# Altium schematic symbol library Board_C22.SchLib: 33 symbols
Pins are listed as number, name and electrical type; pins without a type are passive.

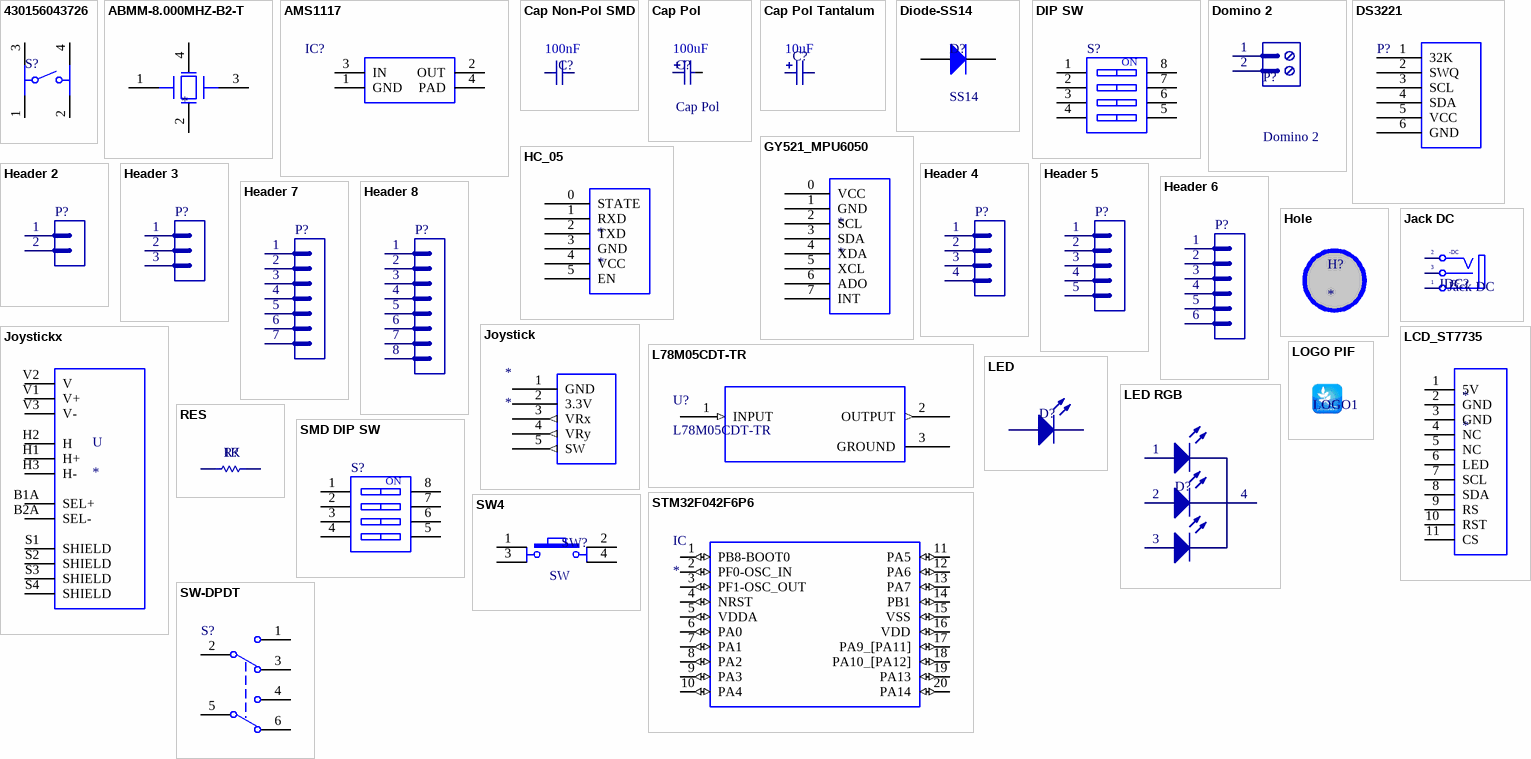
[diagram p0: symbols 430156043726 to SW-DPDT]

## 430156043726
designator S?
WS-TATV THT Tact Switch 6x6mm, height 4.3mm, 260gf; Part Number: 430156043726; Rated Voltage: 12VDC; Rated Current: 50mA; Washable: No; ComponentLink1Description: Manufacturer; ComponentLink1URL: http://www.we-online.de; ComponentLink2Description: Datasheet; ComponentLink2URL: https://katalog.we-online.com/em/datasheet/430156043726.pdf; Operating Temperature: -40 to +85degC; Published Date: September 2019; Contact Material: Stainless Steel; Height: 4.3mm; Mounting Technology: THT; Contact Plating: Silver; Operation Force: 260gf; Packaging: Bulk; Terminal Material: Copper Alloy; Publisher: Wurth Elektronik; Terminal Plating: Silver
footprint 4301x60437x6 (6x6mm Tact Switch, THT version)
pins: 1, 2, 3, 4

## ABMM-8.000MHZ-B2-T
designator ?
8MHz Â±20ppm Crystal 18pF 70 Ohms 4-SMD, No Lead; MP: ABMM-8.000MHZ-B2-T; MF: Abracon; Package: SMD-4 Abracon; Digi-Key_Purchase_URL: https://www.digikey.com/product-detail/en/abracon-llc/ABMM-8.000MHZ-B2-T/535-9164-1-ND/675681?utm_source=snapeda&utm_medium=aggregator&utm_campaign=symbol; Value: *; SnapEDA_Link: https://www.snapeda.com/parts/ABMM-8.000MHZ-B2-T/Abracon%20LLC/view-part/106768/?ref=snap; Digi-Key_Part_Number: 535-9164-1-ND
footprint XTAL_TSX-3225_16.0000MF18X-AC3
pins: 1, 2, 3, 4

## AMS1117
designator IC?
Available in 1.8V, 2.5V, 2.85V, 3.3V, 5V, and  Adjustable Versions; Value: LM317
footprint SOT223 (SOT223, 4-Leads, Body 6.5x3.5mm, Pitch 2.3mm, Lead Span 7mm, IPC Medium Density)
pins: 1 GND, 2 OUT, 3 IN, 4 PAD

## Cap Non-Pol SMD
designator C?  value 100nF  (hidden comment: Cap Non-Pol SMD)
Capacitor
footprint CAP-SM-0805
pins: 1, 2

## Cap Pol
designator C?  value 100uF
Polarized Capacitor (Radial)
footprint CP1/2.5 (Tu hoa 33 >100 uF,50V, 220uF/16V,25V)
pins: 1, 2
1 alternate drawing of the same symbol

## Cap Pol Tantalum
designator C?, comment Capacitance: 10uF  (hidden comment: Capacitors)
Capacitors Tantalum; Manufacturer: Kemet; Manufacturer Part Number: T491A106K010AT; Manufacturer Size Code: A; Tolerance: ±10%; Voltage - Rated: 10V; ESR (Equivalent Series Resistance): 3.8 Ohm; Type: Molded; Lifetime @ Temp.: 2000 Hrs @ 85°C; Supplier 1: Digi-Key; RoHS: RoHS Compliant; Category: Capacitors; Stock 1: 316000; Pricing 1: 2000=0.0626, 4000=0.05791, 10000=0.05478, 14000=0.05196, 50000=0.04695, 100000=0.04147 (USD); Packaging: Tape & Reel (TR); Part Status: Active; Operating Temperature: -55°C ~ 125°C; Mounting Type: Surface Mount; Package / Case: 1206 (3216 Metric); Size / Dimension: 0.126" L x 0.063" W (3.20mm x 1.60mm); Height - Seated (Max): 0.071" (1.80mm); Lead Spacing: -; Features: General Purpose; ComponentLink1URL: http://www.kemet.com/Lists/ProductCatalog/Attachments/254/KEM_T2005_T491.pdf; ComponentLink1Description: http://www.kemet.com/Lists/ProductCatalog/Attachments/254/KEM_T2005_T491.pdf
footprint C_TANTALUM_3216_18
pins: 1, 2

## Diode-SS14
designator D?, comment SS14
DIODE 40V 1A SMA; Manufacturer: ON Semiconductor; Local Supplier: thegioiic; Local Supplier Link: https://thegioiic.com/products/ss14-sma; Supplier 1: Digikey; Supplier 1 Link: https://www.digikey.com/product-detail/en/on-semiconductor/SS14/SS14CT-ND/965729; Manufacturer Part Number: SS14; Supplier 1 Part Number: SS14CT-ND
footprint SS14 (DO-214-AC/SMA Molded Diode, Body 5.3x2.6mm, IPC Medium Density)
pins: 1 A, 2 K

## DIP SW
designator S?
WS-DITV Compact THT Dip Switch, Raised Actuator, pitch 2.54mm, 4p; Part Number: 418117270904; Operation Force: 800g; Pole Number: 4; Actuator Type: Raise Type; Circuit: SPST-NO; Rated Current Switching: 25mA; Rated Current Non-Switching: 100mA; Rated Voltage Non-Switching: 50VDC; Rated Voltage Switching: 24VDC; ComponentLink1Description: Manufacturer; ComponentLink1URL: http://www.we-online.de; ComponentLink2Description: Datasheet; ComponentLink2URL: https://katalog.we-online.com/em/datasheet/418117270904.pdf; Pitch: 2.54mm; Contact Material: Copper Alloy; Mounting Technology: THT; Operating Temperature: -40 to +85degC; Contact Plating: Gold; Packaging: Tube; Publisher: Wurth Elektronik; Published Date: September 2019
footprint 418117270904 (2.54 mm compact THT with raised actuator, 4p)
pins: 1, 2, 3, 4, 5, 6, 7, 8
text: ON

## Domino 2
designator P?
Domino, 2-Pin; LatestRevisionDate: 17-Jul-2002; LatestRevisionNote: Re-released for DXP Platform.; Publisher: Altium Limited
footprint DOMINO SMALL 2 (3.5 mm)
footprint DOMINO 2- 5mm
pins: 1, 2

## DS3221
designator P?
Header, 6-Pin; LatestRevisionDate: 17-Jul-2002; LatestRevisionNote: Re-released for DXP Platform.; Publisher: Altium Limited
footprint DS3221 (JP6)
pins: 1 32K, 2 SWQ, 3 SCL, 4 SDA, 5 VCC, 6 GND

## GY521_MPU6050
designator *
footprint GY521_MPU6050
pins: 0 VCC, 1 GND, 2 SCL, 3 SDA, 4 XDA, 5 XCL, 6 ADO, 7 INT

## HC_05
designator *
footprint HC_05
footprint HC_05
pins: 0 STATE, 1 RXD, 2 TXD, 3 GND, 4 VCC, 5 EN

## Header 2
designator P?
Header, 2-Pin; LatestRevisionDate: 17-Jul-2002; LatestRevisionNote: Re-released for DXP Platform.; Publisher: Altium Limited
footprint JP2
pins: 1, 2

## Header 3
designator P?
Header, 3-Pin; LatestRevisionDate: 17-Jul-2002; LatestRevisionNote: Re-released for DXP Platform.; Publisher: Altium Limited
footprint JP3 (Jumper 3)
pins: 1, 2, 3

## Header 4
designator P?
Header, 4-Pin; LatestRevisionDate: 17-Jul-2002; LatestRevisionNote: Re-released for DXP Platform.; Publisher: Altium Limited
footprint JP4 (Jumper 4)
pins: 1, 2, 3, 4

## Header 5
designator P?
Header, 5-Pin; LatestRevisionDate: 17-Jul-2002; LatestRevisionNote: Re-released for DXP Platform.; Publisher: Altium Limited
footprint JP5
pins: 1, 2, 3, 4, 5

## Header 6
designator P?
Header, 6-Pin; LatestRevisionDate: 17-Jul-2002; LatestRevisionNote: Re-released for DXP Platform.; Publisher: Altium Limited
footprint JP6
pins: 1, 2, 3, 4, 5, 6

## Header 7
designator P?
Header, 7-Pin; LatestRevisionDate: 17-Jul-2002; LatestRevisionNote: Re-released for DXP Platform.; Publisher: Altium Limited
footprint JP7
pins: 1, 2, 3, 4, 5, 6, 7

## Header 8
designator P?
Header, 8-Pin; LatestRevisionDate: 17-Jul-2002; LatestRevisionNote: Re-released for DXP Platform.; Publisher: Altium Limited
footprint JP8
pins: 1, 2, 3, 4, 5, 6, 7, 8

## Hole
designator H?
Hole 3mm
footprint LO KHOAN 3MM LUC GIAC
footprint LO KHOAN 3MM
pins: 1 hidden

## Jack DC
designator JDC?
Jack DC input; Value: Jac DC
footprint DC-IN (Jac DC input)
pins: 1 T "Tip", 2 TN "Tip Normal (Break Contact)", 3 S (power) "Sleeve (Ground)"
text: -DC; +DC

## Joystick
designator *
footprint Joystick
pins: 1 GND (power), 2 3.3V (power), 3 VRx (out), 4 VRy (out), 5 SW (out)

## Joystickx
designator U
Joystick, 2 - Axis Analog _Resistive_ Output; MF: SparkFun Electronics; MP: COM-09032; SnapEDA_Link: https://www.snapeda.com/parts/COM-09032/SparkFun%20Electronics/view-part/888157/?ref=snap; Availability: Unavailable; Value: *; Price: None; Package: SparkFun Electronics
footprint XDCR_COM-09032
pins: B1A SEL+, B2A SEL-, H1 H+, H2 H, H3 H-, S1 SHIELD, S2 SHIELD, S3 SHIELD, S4 SHIELD, V1 V+, V2 V, V3 V-

## L78M05CDT-TR
designator U?
No Description Available; SourceLibrary: PartsWith3DErrors_Fixed; Built_By: EMA_UL_Team; Vendor: STMicroelectronics; Manufacturer_Part_Number: L78M05CDT-TR; Copyright: Copyright (C) 2018 Accelerated Designs. All rights reserved; RefDes: RefDes; Type: DEV
footprint DPAK_STM
pins: 1 INPUT (in), 2 OUTPUT (out), 3 GROUND

## LCD_ST7735
designator *
footprint LCD_ST7735
pins: 1 5V, 2 GND, 3 GND, 4 NC, 5 NC, 6 LED, 7 SCL, 8 SDA, 9 RS, 10 RST, 11 CS

## LED
designator D?  (value not drawn)
footprint LED_0805_Blue (Chip LED, 2-Leads, Body 2.0x1.3mm, IPC Medium Density)
pins: 1 A, 2 K

## LED RGB
designator D?  (value not drawn)
footprint LED RGB
pins: 1 Anod, 2 Anod, 3 Anod, 4 Anod

## LOGO PIF
designator LOGO1  (value not drawn)
footprint PIF LOGO BOTTOM LAYER
footprint PIF LOGO BOTTOM OVERLAY
footprint PIF LOGO TOP LAYER
footprint PIF LOGO TOP OVERLAY

## RES
designator R?, comment value 1K  (hidden comment: Resistor 1/4W)
footprint RES-SM-0805
pins: 1, 2

## SMD DIP SW
designator S?
WS-DISV Small Compact SMT Dip Switch, Raised Actuator, pitch 2.54mm, 4p; Part Number: 418121270804; Operation Force: 600g; Pole Number: 4; Actuator Type: Raise Type; Circuit: SPST-NO; Rated Current Switching: 25mA; Rated Current Non-Switching: 100mA; Rated Voltage Non-Switching: 50VDC; Rated Voltage Switching: 24VDC; ComponentLink1Description: Manufacturer; ComponentLink1URL: http://www.we-online.de; ComponentLink2Description: Datasheet; ComponentLink2URL: https://katalog.we-online.com/em/datasheet/418121270804.pdf; Pitch: 2.54mm; Contact Material: Copper Alloy; Mounting Technology: SMT; Operating Temperature: -40 to +85degC; Contact Plating: Gold; Packaging: Tape and Reel; Publisher: Wurth Elektronik; Published Date: September 2019
footprint 418121270804 (2.54 mm small compact SMD with raised actuator, 04p)
pins: 1, 2, 3, 4, 5, 6, 7, 8
text: ON

## STM32F042F6P6
designator IC
ARMÂ® CortexÂ®-M0 STM32F0 Microcontroller IC 32-Bit 48MHz 32KB _32K x 8_ FLASH 20-TSSOP; MP: STM32F042F6P6; MF: STMicroelectronics; Availability: Unavailable; SnapEDA_Link: https://www.snapeda.com/parts/STM32F042F6P6/STMicroelectronics/view-part/109253/?ref=snap; Value: *; Price: None; Package: TSSOP-20 STMicroelectronics
footprint TSSOP20
pins: 1 PB8-BOOT0 (io), 2 PF0-OSC_IN (io), 3 PF1-OSC_OUT (io), 4 NRST (io), 5 VDDA (io), 6 PA0 (io), 7 PA1 (io), 8 PA2 (io), 9 PA3 (io), 10 PA4 (io), 11 PA5 (io), 12 PA6 (io), 13 PA7 (io), 14 PB1 (io), 15 VSS (io), 16 VDD (io), 17 PA9_[PA11] (io), 18 PA10_[PA12] (io), 19 PA13 (io), 20 PA14 (io)

## SW4
designator SW?, comment SW
Switch button 4 pin; Value: Button chip 4 pin
footprint 4301x60437x6 (6x6mm Tact Switch, THT version)
pins: 1, 2, 3, 4

## SW-DPDT
designator S?
WS-SLTV THT Mini Slide Switch, Same Side Connection, DPDT; Part Number: 452404020202; Rated Current: 300mA; Rated Voltage: 6VDC; Switching Function: On-On; ComponentLink1Description: Manufacturer; ComponentLink1URL: http://www.we-online.de; ComponentLink2Description: Datasheet; ComponentLink2URL: https://katalog.we-online.com/em/datasheet/452404020202.pdf; Packaging: Bulk; Publisher: Wurth Elektronik; Contact Material: Copper Alloy; Mounting Technology: THT; Operating Temperature: -40 to +85degC; Contact Plating: Silver; Published Date: September 2019; Terminal Material: Copper Alloy; Size: 9x3.5mm; Circuit: DPDT; Terminal Plating: Silver
footprint 452404020202 (THT Mini Slide Switch, body 9x3.5mm)
pins: 1, 2 COM, 3, 4, 5 COM, 6